# Altium schematic symbol library EG3013.SchLib: 1 symbol
Pins are listed as number, name and electrical type; pins without a type are passive.

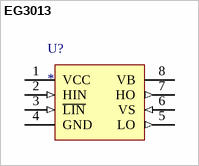
[diagram p0: symbol EG3013]

## EG3013
designator U?
footprint EG3013 (SOIC, 8-Leads, Body 5.00x3.90mm, Pitch 1.27mm, IPC Medium Density)
pins: 1 VCC (power), 2 HIN (in), 3 ~{LIN} (in), 4 GND (power), 5 LO (out), 6 VS (in), 7 HO (out), 8 VB